# Altium schematic symbol library BuckConverter.SchLib: 1 symbol
Pins are listed as number, name and electrical type; pins without a type are passive.

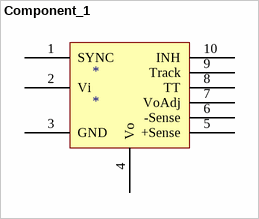
[diagram p0: symbol Component_1]

## Component_1
designator *
footprint PCBComponent_1 - duplicate1
pins: 1 SYNC, 2 Vi, 3 GND, 4 Vo, 5 +Sense, 6 -Sense, 7 VoAdj, 8 TT, 9 Track, 10 INH